# Altium schematic symbol library CL21B124KBFNNNE.SchLib: 1 symbol
Pins are listed as number, name and electrical type; pins without a type are passive.

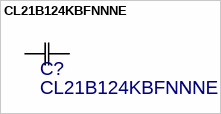
[diagram p0: symbol CL21B124KBFNNNE]

## CL21B124KBFNNNE
designator C?
C: Copyright (C) 2018 Accelerated Designs. All rights reserved; Vendor: Samsung; Built_By: EMA_Rocco; Manufacturer_Part_Number: CL21B124KBFNNNE; Copyright: Copyright (C) 2018 Accelerated Designs. All rights reserved; Value: CL21B124KBFNNNE
footprint CAP_CL21
pins: 1, 2
1 alternate drawing of the same symbol